# EAGLE library part SPDT_DUAL (library CC2530_PCB_TL)
TS3A24159DGSR IC SWITCH DUAL SPDT 10MSOP
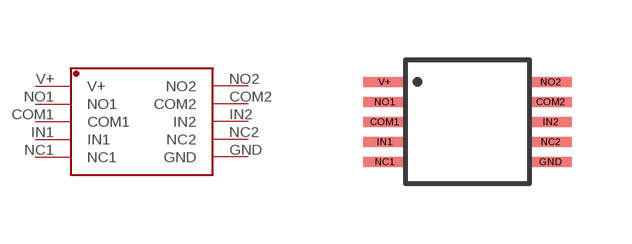
[diagram p13: symbol with the pads of SPDT_DUAL; footprint SPDT_DUAL]

Designator prefix -

## SPDT_DUAL  [SPDT_DUAL]
COM1  COM1
COM2  COM2
GND  GND  pwr
IN1  IN1  in
IN2  IN2
NC1  NC1  nc
NC2  NC2  nc
NO1  NO1
NO2  NO2
V+  V+  pwr

## Footprint SPDT_DUAL (pad centres in mm)
TS3A24159DGSR IC SWITCH DUAL SPDT 10MSOP
smd 1.05 x 0.25: COM1 -2.075,0; COM2 2.075,0.5; GND 2.075,-1; IN1 -2.075,-0.5; IN2 2.075,0; NC1 -2.075,-1; NC2 2.075,-0.5; NO1 -2.075,0.5; NO2 2.075,1; V+ -2.075,1